# Altium schematic symbol library SamacSys.SchLib: 19 symbols
Pins are listed as number, name and electrical type; pins without a type are passive.

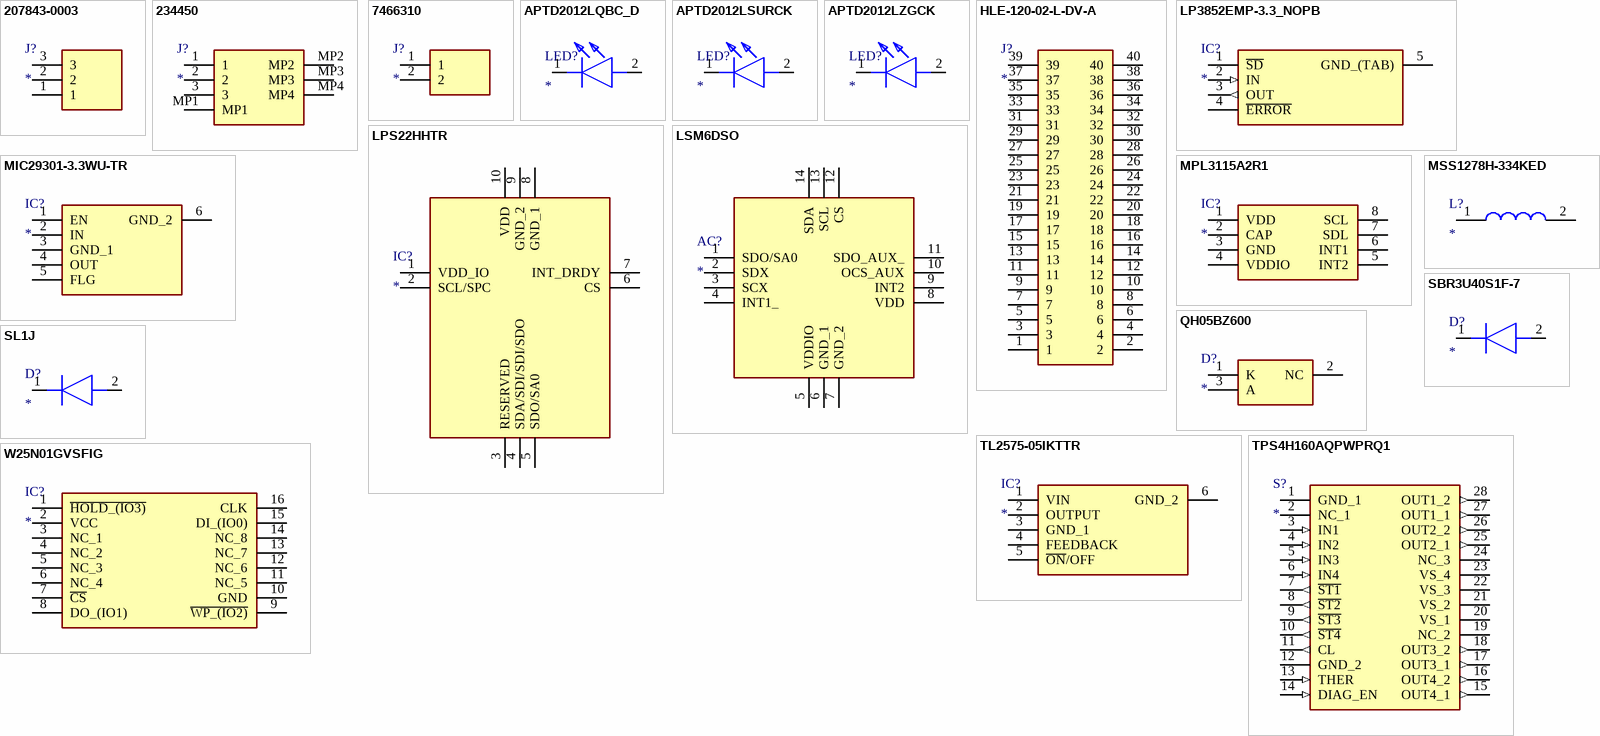
[diagram p0: symbols 207843-0003 to W25N01GVSFIG]

## 207843-0003
designator J?
Connector; Manufacturer_Name: Molex; Manufacturer_Part_Number: 207843-0003; Datasheet Link: https://www.molex.com/pdm_docs/sd/2078430003_sd.pdf; Height: 6.95mm; Mouser Part Number: 538-207843-0003; Mouser Price/Stock: https://www.mouser.co.uk/ProductDetail/Molex/207843-0003?qs=XeJtXLiO41TegXAHRiYnCg%3D%3D; Arrow Part Number: 207843-0003; Arrow Price/Stock: https://www.arrow.com/en/products/2078430003/molex?region=nac
footprint 2078430003
pins: 1, 2, 3

## 234450
designator J?
Connector; Manufacturer_Name: ERNI; Manufacturer_Part_Number: 234450; Datasheet Link: https://www.erni.com/fileadmin/import/products/assets/DC0000169.PDF; Height: 2.98mm; Mouser Part Number: 305-234450; Mouser Price/Stock: https://www.mouser.co.uk/ProductDetail/ERNI/234450?qs=DK05bRAVOD4CDOGVl35lNg%3D%3D; Arrow Part Number: 234450; Arrow Price/Stock: https://www.arrow.com/en/products/234450/erni-electronics?region=europe
footprint 234450
pins: 1, 2, 3, MP1, MP2, MP3, MP4

## 7466310
designator J?
Connector; Manufacturer_Name: Wurth Elektronik; Manufacturer_Part_Number: 7466310; Datasheet Link: https://www.we-online.com/catalog/datasheet/7466310.pdf; Height: 7mm; Mouser Part Number: 710-7466310; Mouser Price/Stock: https://www.mouser.co.uk/ProductDetail/Wurth-Elektronik/7466310?qs=HXFqYaX1Q2wJWeDTYvGsCg%3D%3D
footprint 7466310
pins: 1, 2

## APTD2012LQBC_D
designator LED?
LED; Manufacturer_Name: Kingbright; Manufacturer_Part_Number: APTD2012LQBC/D; Datasheet Link: https://componentsearchengine.com/Datasheets/1/APTD2012LQBC_D.pdf; Height: 1.2mm; Mouser Part Number: 604-APTD2012LQBCD; Mouser Price/Stock: https://www.mouser.co.uk/ProductDetail/Kingbright/APTD2012LQBC-D?qs=AQlKX63v8RvDGqprk6aUCg%3D%3D; Arrow Part Number: APTD2012LQBC/D; Arrow Price/Stock: https://www.arrow.com/en/products/aptd2012lqbcd/kingbright?region=nac
footprint LEDC2012X120N
pins: 1 K, 2 A

## APTD2012LSURCK
designator LED?
LED; Manufacturer_Name: Kingbright; Manufacturer_Part_Number: APTD2012LSURCK; Datasheet Link: http://www.kingbrightusa.com/images/catalog/SPEC/APTD2012LSURCK.pdf; Height: 1.2mm; Mouser Part Number: 604-APTD2012LSURCK; Mouser Price/Stock: https://www.mouser.co.uk/ProductDetail/Kingbright/APTD2012LSURCK?qs=AQlKX63v8RvkMadNvwbkxw%3D%3D; Arrow Part Number: APTD2012LSURCK; Arrow Price/Stock: https://www.arrow.com/en/products/aptd2012lsurck/kingbright?region=nac
footprint LEDM2012X120N
pins: 1 K, 2 A

## APTD2012LZGCK
designator LED?
LED; Manufacturer_Name: Kingbright; Manufacturer_Part_Number: APTD2012LZGCK; Datasheet Link: http://www.kingbrightusa.com/images/catalog/SPEC/APTD2012LZGCK.pdf; Height: 1.05mm; Mouser Part Number: 604-APTD2012LZGCK; Mouser Price/Stock: https://www.mouser.co.uk/ProductDetail/Kingbright/APTD2012LZGCK?qs=AQlKX63v8RvUnlqpSGhMeA%3D%3D; Arrow Part Number: APTD2012LZGCK; Arrow Price/Stock: https://www.arrow.com/en/products/aptd2012lzgck/kingbright?region=nac
footprint LEDC2012X105N
pins: 1 K, 2 A

## HLE-120-02-L-DV-A
designator J?
Connector; Manufacturer_Name: SAMTEC; Manufacturer_Part_Number: HLE-120-02-L-DV-A; Datasheet Link: http://suddendocs.samtec.com/prints/hle-1xx-02-xxx-dv-xx-xx-xx-mkt.pdf; Mouser Part Number: 200-HLE12002LDVA; Mouser Price/Stock: https://www.mouser.co.uk/ProductDetail/Samtec/HLE-120-02-L-DV-A?qs=0lQeLiL1qyZq0rwGrAI%2FeQ%3D%3D; Arrow Part Number: HLE-120-02-L-DV-A; Arrow Price/Stock: https://www.arrow.com/en/products/hle-120-02-l-dv-a/samtec?region=nac
footprint HLE-120-02-XXX-DV-A
pins: 1, 2, 3, 4, 5, 6, 7, 8, 9, 10, 11, 12, 13, 14, 15, 16, 17, 18, 19, 20, 21, 22, 23, 24, 25, 26, 27, 28, 29, 30, 31, 32, 33, 34, 35, 36, 37, 38, 39, 40

## LP3852EMP-3.3_NOPB
designator IC?
Integrated Circuit; Manufacturer_Name: Texas Instruments; Manufacturer_Part_Number: LP3852EMP-3.3/NOPB; Datasheet Link: http://www.ti.com/lit/ds/symlink/lp3852.pdf; Height: 1.8mm; Mouser Part Number: 926-LP3852EMP33NOPB; Mouser Price/Stock: https://www.mouser.co.uk/ProductDetail/Texas-Instruments/LP3852EMP-33-NOPB?qs=1FNqv8aZn1SurWe7DNzDPA%3D%3D; Arrow Part Number: LP3852EMP-3.3/NOPB; Arrow Price/Stock: https://www.arrow.com/en/products/lp3852emp-3.3nopb/texas-instruments
footprint SOT150P700X180-5N
pins: 1 ~{SD}, 2 IN (in), 3 OUT (out), 4 ~{ERROR}, 5 GND_(TAB) (power)

## LPS22HHTR
designator IC?
Integrated Circuit; Manufacturer_Name: STMicroelectronics; Manufacturer_Part_Number: LPS22HHTR; Datasheet Link: https://www.st.com/resource/en/datasheet/lps22hh.pdf; Mouser Part Number: 511-LPS22HHTR; Mouser Price/Stock: https://www.mouser.co.uk/ProductDetail/STMicroelectronics/LPS22HHTR?qs=lc2O%252BfHJPVbKAkJQGWFcLg%3D%3D; Arrow Part Number: LPS22HHTR; Arrow Price/Stock: https://www.arrow.com/en/products/lps22hhtr/stmicroelectronics?region=nac
footprint LPS22HHTR
pins: 1 VDD_IO, 2 SCL/SPC, 3 RESERVED, 4 SDA/SDI/SDI/SDO, 5 SDO/SA0, 6 CS, 7 INT_DRDY, 8 GND_1, 9 GND_2, 10 VDD

## LSM6DSO
designator AC?
Accelerometer; Manufacturer_Name: STMicroelectronics; Manufacturer_Part_Number: LSM6DSO; Datasheet Link: https://www.st.com/en/mems-and-sensors/lsm6dso.html; Height: 0.86mm; Mouser Part Number: N/A; Mouser Price/Stock: https://www.mouser.co.uk/ProductDetail/STMicroelectronics/LSM6DSO?qs=lc2O%252BfHJPVaWmEJZZeO%252B0w%3D%3D
footprint LSM6DSO
pins: 1 SDO/SA0, 2 SDX, 3 SCX, 4 INT1_, 5 VDDIO, 6 GND_1, 7 GND_2, 8 VDD, 9 INT2, 10 OCS_AUX, 11 SDO_AUX_, 12 CS, 13 SCL, 14 SDA

## MIC29301-3.3WU-TR
designator IC?
Integrated Circuit; Manufacturer_Name: Microchip; Manufacturer_Part_Number: MIC29301-3.3WU-TR; Datasheet Link: http://www.microchip.com/mymicrochip/filehandler.aspx?ddocname=en580805; Height: 5.08mm; Mouser Part Number: 998-MIC29301-3.3WUTR; Mouser Price/Stock: https://www.mouser.co.uk/ProductDetail/Microchip-Technology/MIC29301-3.3WU-TR?qs=U6T8BxXiZAWJme4uExHM0Q%3D%3D; Arrow Part Number: MIC29301-3.3WU-TR; Arrow Price/Stock: https://www.arrow.com/en/products/mic29301-3.3wu-tr/microchip-technology
footprint MIC2930133WUTR
pins: 1 EN, 2 IN, 3 GND_1, 4 OUT, 5 FLG, 6 GND_2

## MPL3115A2R1
designator IC?
Integrated Circuit; Manufacturer_Name: NXP; Manufacturer_Part_Number: MPL3115A2R1; Datasheet Link: http://www.nxp.com/docs/en/data-sheet/MPL3115A2.pdf; Height: 1.2mm; Mouser Part Number: 841-MPL3115A2R1; Mouser Price/Stock: https://www.mouser.co.uk/ProductDetail/NXP-Semiconductors/MPL3115A2R1?qs=6ddF3R%2F6EV%2Fx8daKoNGetQ%3D%3D; Arrow Part Number: MPL3115A2R1; Arrow Price/Stock: https://www.arrow.com/en/products/mpl3115a2r1/nxp-semiconductors?region=nac
footprint MPL3115A2R1
pins: 1 VDD, 2 CAP, 3 GND, 4 VDDIO, 5 INT2, 6 INT1, 7 SDL, 8 SCL

## MSS1278H-334KED
designator L?
Inductor; Manufacturer_Name: COILCRAFT; Manufacturer_Part_Number: MSS1278H-334KED; Datasheet Link: https://4donline.ihs.com/images/VipMasterIC/IC/COLC/COLC-S-A0010155479/COLC-S-A0010155479-1.pdf?hkey=EF798316E3902B6ED9A73243A3159BB0; Height: 8.05mm; Mouser Part Number: 994-MSS1278H-334KED; Mouser Price/Stock: https://www.mouser.co.uk/ProductDetail/Coilcraft/MSS1278H-334KED?qs=KUoIvG%2F9IlYsPneJA3QIdw%3D%3D
footprint MSS1278H334KED
pins: 1, 2

## QH05BZ600
designator D?
Diode; Manufacturer_Name: Power Integrations; Manufacturer_Part_Number: QH05BZ600; Datasheet Link: https://www.power.com/sites/default/files/documents/qh05tz600_qh05bz600.pdf; Height: 4.95mm
footprint QH05BZ600
pins: 1 K, 2 NC, 3 A

## SBR3U40S1F-7
designator D?
Diode; Manufacturer_Name: Diodes Incorporated; Manufacturer_Part_Number: SBR3U40S1F-7; Datasheet Link: https://www.arrow.com/en/products/sbr3u40s1f-7/diodes-incorporated; Height: 1.15mm; Mouser Part Number: 621-SBR3U40S1F-7; Mouser Price/Stock: https://www.mouser.co.uk/ProductDetail/Diodes-Incorporated/SBR3U40S1F-7?qs=HXFqYaX1Q2yP2B8FJNWOhg%3D%3D; Arrow Part Number: SBR3U40S1F-7; Arrow Price/Stock: https://www.arrow.com/en/products/sbr3u40s1f-7/diodes-incorporated
footprint SODFL3518X115N
pins: 1 K, 2 A

## SL1J
designator D?
Diode; Manufacturer_Name: Diotec; Manufacturer_Part_Number: SL1J; Description: Rectifier Diode Switching 600V 1A 1000ns 2-Pin SOD-123FL T/R; Datasheet Link: https://diotec.com/request/datasheet/sl1a.pdf; Height: 1.3mm; Mouser Part Number: 637-SL1J; Mouser Price/Stock: https://www.mouser.co.uk/ProductDetail/Diotec-Semiconductor/SL1J?qs=OlC7AqGiEDm%2FUyNJqMVviA%3D%3D; Arrow Part Number: SL1J; Arrow Price/Stock: https://www.arrow.com/en/products/sl1j/diotec-semiconductor-ag?region=europe
footprint SODFL3718X130N
pins: 1 K, 2 A

## TL2575-05IKTTR
designator IC?
Integrated Circuit; Manufacturer_Name: Texas Instruments; Manufacturer_Part_Number: TL2575-05IKTTR; Datasheet Link: http://www.ti.com/lit/gpn/tl2575-05; Height: 4mm; Mouser Part Number: 595-TL2575-05IKTTR; Mouser Price/Stock: https://www.mouser.co.uk/ProductDetail/Texas-Instruments/TL2575-05IKTTR?qs=EnLMdcWnKADvl92kjFJdog%3D%3D; Arrow Part Number: TL2575-05IKTTR; Arrow Price/Stock: https://www.arrow.com/en/products/tl2575-05ikttr/texas-instruments?region=nac
footprint TL1963AQKTTRQ1
pins: 1 VIN, 2 OUTPUT, 3 GND_1, 4 FEEDBACK, 5 ~{ON}/OFF, 6 GND_2

## TPS4H160AQPWPRQ1
designator S?
Switch; Manufacturer_Name: Texas Instruments; Manufacturer_Part_Number: TPS4H160AQPWPRQ1; Datasheet Link: http://www.ti.com/lit/gpn/tps4h160-q1; Height: 1.2mm; Mouser Part Number: 595-TPS4H160AQPWPRQ1; Mouser Price/Stock: https://www.mouser.co.uk/ProductDetail/Texas-Instruments/TPS4H160AQPWPRQ1?qs=l4JqiU1WKg3jmTHCrG9xTw%3D%3D; Arrow Part Number: TPS4H160AQPWPRQ1; Arrow Price/Stock: https://www.arrow.com/en/products/tps4h160aqpwprq1/texas-instruments?region=nac
footprint SOP65P640X120-28N
pins: 1 GND_1 (power), 2 NC_1, 3 IN1 (in), 4 IN2 (in), 5 IN3 (in), 6 IN4 (in), 7 ~{ST1} (out), 8 ~{ST2} (out), 9 ~{ST3} (out), 10 ~{ST4} (out), 11 CL (out), 12 GND_2 (power), 13 THER (in), 14 DIAG_EN (in), 15 OUT4_1 (out), 16 OUT4_2 (out), 17 OUT3_1 (out), 18 OUT3_2 (out), 19 NC_2, 20 VS_1 (power), 21 VS_2 (power), 22 VS_3 (power), 23 VS_4 (power), 24 NC_3, 25 OUT2_1 (out), 26 OUT2_2 (out), 27 OUT1_1 (out), 28 OUT1_2 (out)

## W25N01GVSFIG
designator IC?
Integrated Circuit; Manufacturer_Name: Winbond; Manufacturer_Part_Number: W25N01GVSFIG; Datasheet Link: https://www.winbond.com/hq/search-resource-file.jsp?partNo=W25N01GVSFIG&type=datasheet; Height: 2.64mm; Mouser Part Number: 454-W25N01GVSFIG; Mouser Price/Stock: https://www.mouser.co.uk/ProductDetail/Winbond/W25N01GVSFIG?qs=qSfuJ%252Bfl%2Fd5wRcUOkRc5Cw%3D%3D; Arrow Part Number: W25N01GVSFIG; Arrow Price/Stock: https://www.arrow.com/en/products/w25n01gvsfig/winbond-electronics?region=nac
footprint SOIC127P1032X264-16N
pins: 1 ~{HOLD_(IO3)}, 2 VCC, 3 NC_1, 4 NC_2, 5 NC_3, 6 NC_4, 7 ~{CS}, 8 DO_(IO1), 9 ~{WP_(IO2)}, 10 GND, 11 NC_5, 12 NC_6, 13 NC_7, 14 NC_8, 15 DI_(IO0), 16 CLK